# EAGLE library part IC_ADG715 (library akita)
I2C Analog Switch (8 x SPST)
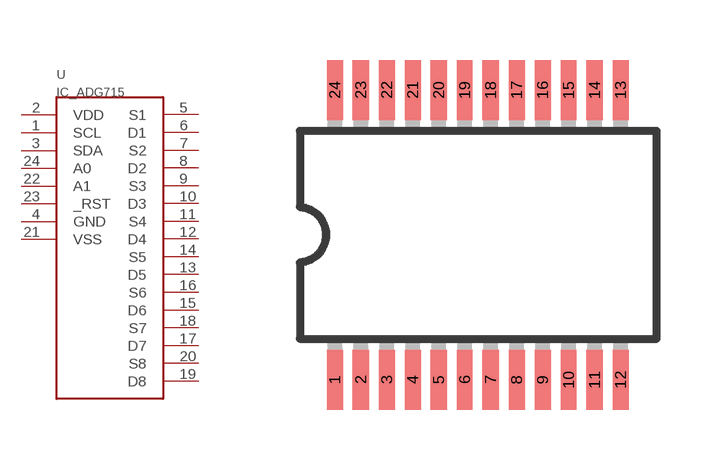
[diagram p6: symbol with the pads of SSOP24; footprint SSOP24]

Designator prefix U

## IC_ADG715  [SSOP24]
1  SCL
2  VDD  pwr
3  SDA
4  GND  pwr
5  S1
6  D1
7  S2
8  D2
9  S3
10  D3
11  S4
12  D4
13  D5
14  S5
15  D6
16  S6
17  D7
18  S7
19  D8
20  S8
21  VSS  pwr
22  A1  in
23  _RST  in
24  A0  in

## Footprint SSOP24 (pad centres in mm)
28-Lead Shrink Small Outline Package SSOP (RS-28) Source: http://www.analog.com/UploadedFiles/Data_Sheets/39677768AD7714_c.pdf
smd 0.4 x 1.5: 1 -4.225,-3.625; 2 -3.575,-3.625; 3 -2.925,-3.625; 4 -2.275,-3.625; 5 -1.625,-3.625; 6 -0.975,-3.625; 7 -0.325,-3.625; 8 0.325,-3.625; 9 0.975,-3.625; 10 1.625,-3.625; 11 2.275,-3.625; 12 2.925,-3.625; 13 2.925,3.625; 14 2.275,3.625; 15 1.625,3.625; 16 0.975,3.625; 17 0.325,3.625; 18 -0.325,3.625; 19 -0.975,3.625; 20 -1.625,3.625; 21 -2.275,3.625; 22 -2.925,3.625; 23 -3.575,3.625; 24 -4.225,3.625